# EAGLE library part CONNECTOR (library adapter)
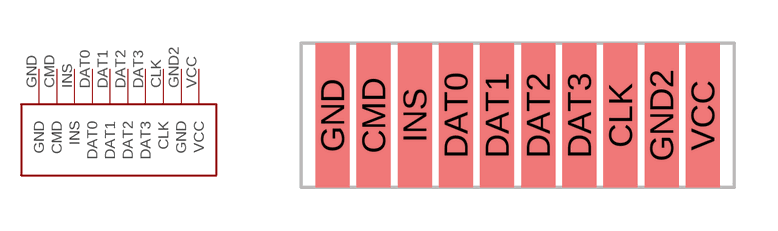
[diagram p1: symbol with the pads of CONNECTOR; footprint CONNECTOR]

Designator prefix -

## CONNECTOR  [CONNECTOR]
CLK  CLK
CMD  CMD
DAT0  DAT0
DAT1  DAT1
DAT2  DAT2
DAT3  DAT3
GND  GND  pwr
GND2  GND  pwr
INS  INS
VCC  VCC  pwr

## Footprint CONNECTOR (pad centres in mm)
smd 1.175 x 5: CLK 3.562,0; CMD -4.988,0; DAT0 -2.138,0; DAT1 -0.713,0; DAT2 0.712,0; DAT3 2.137,0; GND -6.413,0; GND2 4.987,0; INS -3.563,0; VCC 6.412,0